# EAGLE library part ADXL202E (library adxl103_203e)
+/- 2g Dual-Axis Accelerometer with Duty Cycle Output
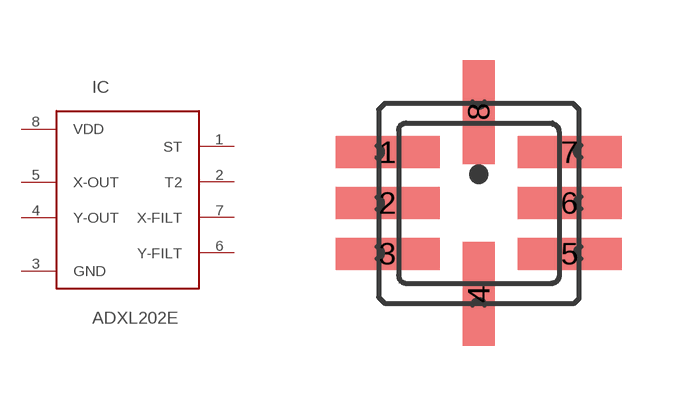
[diagram p0: symbol with the pads of LCC8; footprint LCC8]

Designator prefix IC

## ADXL202E  [LCC8]
1  ST  in
2  T2  in
3  GND  pwr
4  Y-OUT  out
5  X-OUT  out
6  Y-FILT  in
7  X-FILT  in
8  VDD  pwr

## Footprint LCC8 (pad centres in mm)
8 - Terminal Ceramic Leadless Chip Carrier (LCC)
smd 2.6 x 0.8: 1 -2.28,1.27; 2 -2.28,0; 3 -2.28,-1.27; 5 2.27,-1.27; 6 2.27,0; 7 2.27,1.27
smd 0.8 x 2.6: 4 0,-2.28; 8 0,2.28